# EAGLE library part PS2501-4 (library components)
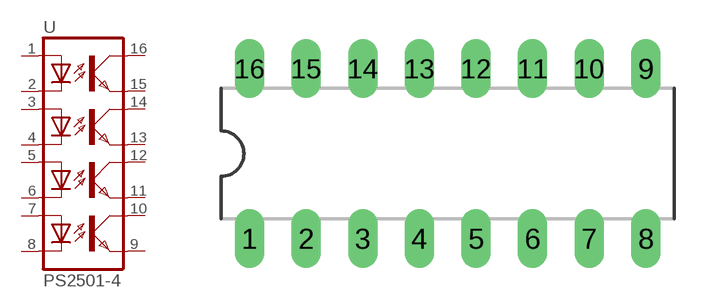
[diagram p1: symbol with the pads of PS2501-4; footprint PS2501-4]

Designator prefix -

## PS2501-4  [PS2501-4]
1  P$1  pas
2  P$2  pas
3  P$3  pas
4  P$4  pas
5  P$5  pas
6  P$6  pas
7  P$7  pas
8  P$8  pas
9  P$9  pas
10  P$10  pas
11  P$11  pas
12  P$12  pas
13  P$13  pas
14  P$14  pas
15  P$15  pas
16  P$16  pas

## Footprint PS2501-4 (pad centres in mm)
drill 0.813 long: 1 -7.62,-3.81; 2 -5.08,-3.81; 3 -2.54,-3.81; 4 0,-3.81; 5 2.54,-3.81; 6 5.08,-3.81; 7 7.62,-3.81; 8 10.16,-3.81; 9 10.16,3.81; 10 7.62,3.81; 11 5.08,3.81; 12 2.54,3.81; 13 0,3.81; 14 -2.54,3.81; 15 -5.08,3.81; 16 -7.62,3.81